# Altium schematic symbol library D_TVS_ETH_SLVU2.8-4.SchLib: 1 symbol
Pins are listed as number, name and electrical type; pins without a type are passive.

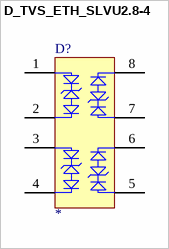
[diagram p0: symbol D_TVS_ETH_SLVU2.8-4]

## D_TVS_ETH_SLVU2.8-4
designator D?
pins: 1, 2, 3, 4, 5, 6, 7, 8